# Altium footprint library Connector_Samtec_MicroPower.PcbLib: 36 footprints (part 3 of 3)
Each footprint in its own frame and in the unit in brackets; x right, y up, seen from the top. Pads: shape width x height; smd on the part's side, far side on the other; paste and mask are expansions set on the pad; w line width, h text height; cw(c..) or ccw(c..) is an arc to the next point about the centre after c.
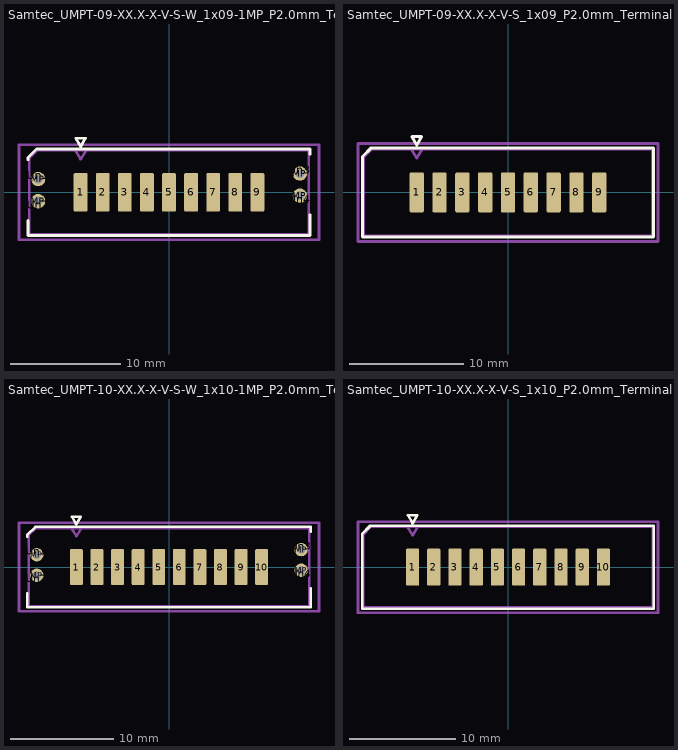
[diagram p2: the footprints below, top view; thin cyan lines are the x and y axes]

## Samtec_UMPT-09-XX.X-X-V-S-W_1x09-1MP_P2.0mm_Terminal_WeldTab [mm]
pads (17):
  rrect20% 1.25x3.5 smd: 1(-8,0) 2(-6,0) 3(-4,0) 4(-2,0) 5(0,0) 6(2,0) 7(4,0) 8(6,0) 9(8,0)
  round 1.3 hole 0.8: MP(-11.85,-0.8) MP(-11.85,1.2) MP(11.85,-0.3) MP(11.85,1.7)
  rect 2.45x2.28 on Top Paste: Un1(-11.85,1.54) Un2(-11.85,-1.14) Un3(11.85,2.04) Un4(11.85,-0.64)
F.SilkS:
  lines w0.254: -12.76,-2.54 -12.76,-3.91 12.76,-3.91 12.76,-2.04 ; -12.76,2.94 -12.76,3.146 -11.996,3.91 12.76,3.91 12.76,3.44 ; -8.433,4.9 -7.567,4.9 -8,4.15 -8.433,4.9
Top Assembly:
  lines w0.254: -8.5,3.8 -8,3 -7.5,3.8 ; -12.65,-3.8 12.65,-3.8 12.65,3.8 -11.95,3.8 -12.65,3.1 -12.65,-3.8
  text "'.Designator'" at -4.047,-0.84 h1
Top Courtyard:
  lines w0.254: -13.58,-4.3 13.58,-4.3 13.58,4.3 -13.58,4.3 -13.58,-4.3
Top Designator:
  text ".Designator" at -7.618,-0.208 h1.52

## Samtec_UMPT-09-XX.X-X-V-S_1x09_P2.0mm_Terminal [mm]
pads (9):
  rrect20% 1.25x3.5 smd: 1(-8,0) 2(-6,0) 3(-4,0) 4(-2,0) 5(0,0) 6(2,0) 7(4,0) 8(6,0) 9(8,0)
F.SilkS:
  lines w0.254: -12.76,-3.91 12.76,-3.91 12.76,3.91 -11.996,3.91 -12.76,3.146 -12.76,-3.91 ; -8.433,4.9 -7.567,4.9 -8,4.15 -8.433,4.9
Top Assembly:
  lines w0.254: -8.5,3.8 -8,3 -7.5,3.8 ; -12.65,-3.8 12.65,-3.8 12.65,3.8 -11.95,3.8 -12.65,3.1 -12.65,-3.8
  text "'.Designator'" at -4.047,-0.84 h1
Top Courtyard:
  lines w0.254: -13.15,-4.3 13.15,-4.3 13.15,4.3 -13.15,4.3 -13.15,-4.3
Top Designator:
  text ".Designator" at -7.618,-0.208 h1.52

## Samtec_UMPT-10-XX.X-X-V-S-W_1x10-1MP_P2.0mm_Terminal_WeldTab [mm]
pads (18):
  rrect20% 1.25x3.5 smd: 1(-9,0) 2(-7,0) 3(-5,0) 4(-3,0) 5(-1,0) 6(1,0) 7(3,0) 8(5,0) 9(7,0) 10(9,0)
  round 1.3 hole 0.8: MP(-12.85,-0.8) MP(-12.85,1.2) MP(12.85,-0.3) MP(12.85,1.7)
  rect 2.45x2.28 on Top Paste: Un1(-12.85,1.54) Un2(-12.85,-1.14) Un3(12.85,2.04) Un4(12.85,-0.64)
F.SilkS:
  lines w0.254: -13.76,-2.54 -13.76,-3.91 13.76,-3.91 13.76,-2.04 ; -13.76,2.94 -13.76,3.146 -12.996,3.91 13.76,3.91 13.76,3.44 ; -9.433,4.9 -8.567,4.9 -9,4.15 -9.433,4.9
Top Assembly:
  lines w0.254: -9.5,3.8 -9,3 -8.5,3.8 ; -13.65,-3.8 13.65,-3.8 13.65,3.8 -12.95,3.8 -13.65,3.1 -13.65,-3.8
  text "'.Designator'" at -4.047,-0.84 h1
Top Courtyard:
  lines w0.254: -14.58,-4.3 14.58,-4.3 14.58,4.3 -14.58,4.3 -14.58,-4.3
Top Designator:
  text ".Designator" at -7.618,-0.208 h1.52

## Samtec_UMPT-10-XX.X-X-V-S_1x10_P2.0mm_Terminal [mm]
pads (10):
  rrect20% 1.25x3.5 smd: 1(-9,0) 2(-7,0) 3(-5,0) 4(-3,0) 5(-1,0) 6(1,0) 7(3,0) 8(5,0) 9(7,0) 10(9,0)
F.SilkS:
  lines w0.254: -13.76,-3.91 13.76,-3.91 13.76,3.91 -12.996,3.91 -13.76,3.146 -13.76,-3.91 ; -9.433,4.9 -8.567,4.9 -9,4.15 -9.433,4.9
Top Assembly:
  lines w0.254: -9.5,3.8 -9,3 -8.5,3.8 ; -13.65,-3.8 13.65,-3.8 13.65,3.8 -12.95,3.8 -13.65,3.1 -13.65,-3.8
  text "'.Designator'" at -4.047,-0.84 h1
Top Courtyard:
  lines w0.254: -14.15,-4.3 14.15,-4.3 14.15,4.3 -14.15,4.3 -14.15,-4.3
Top Designator:
  text ".Designator" at -7.618,-0.208 h1.52